# EAGLE library part XTR116UA (library graftel-internal-ic)
4-20mA CURRENT LOOP TRANSMITTERS
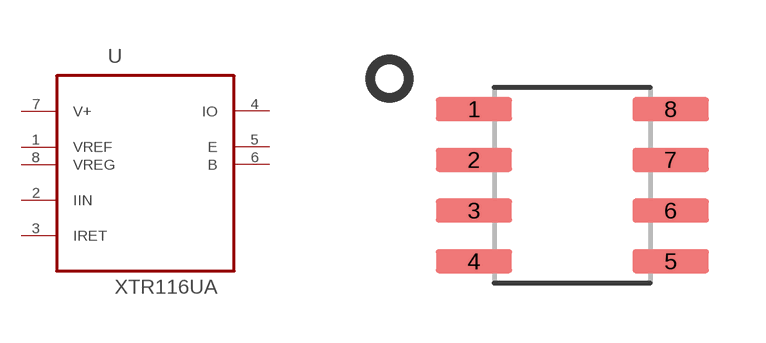
[diagram p51: symbol with the pads of SOIC127P600X175-8N; footprint SOIC127P600X175-8N]

Designator prefix U

## XTR116UA (AVAILABILITY: Good; DESCRIPTION: Sensors, Sensor Conditioning, 4-20mA Transmitters 4-20mA Current Loop Transmitters; MF: Texas Instruments; MP: XTR116UA; PACKAGE: SOIC-8 Texas Instruments; PRICE: 3.22 USD)  [SOIC127P600X175-8N]
1  VREF  pas
2  IIN  in
3  IRET  pas
4  IO  out
5  E  in
6  B  in
7  V+  pwr
8  VREG  pas

## Footprint SOIC127P600X175-8N (pad centres in mm)
smd 1.91 x 0.6: 1 -2.46,1.905; 2 -2.46,0.635; 3 -2.46,-0.635; 4 -2.46,-1.905; 5 2.46,-1.905; 6 2.46,-0.635; 7 2.46,0.635; 8 2.46,1.905